# Altium integrated library Renesas Power Management Linear.IntLib: 125 symbols (part 4 of 4)
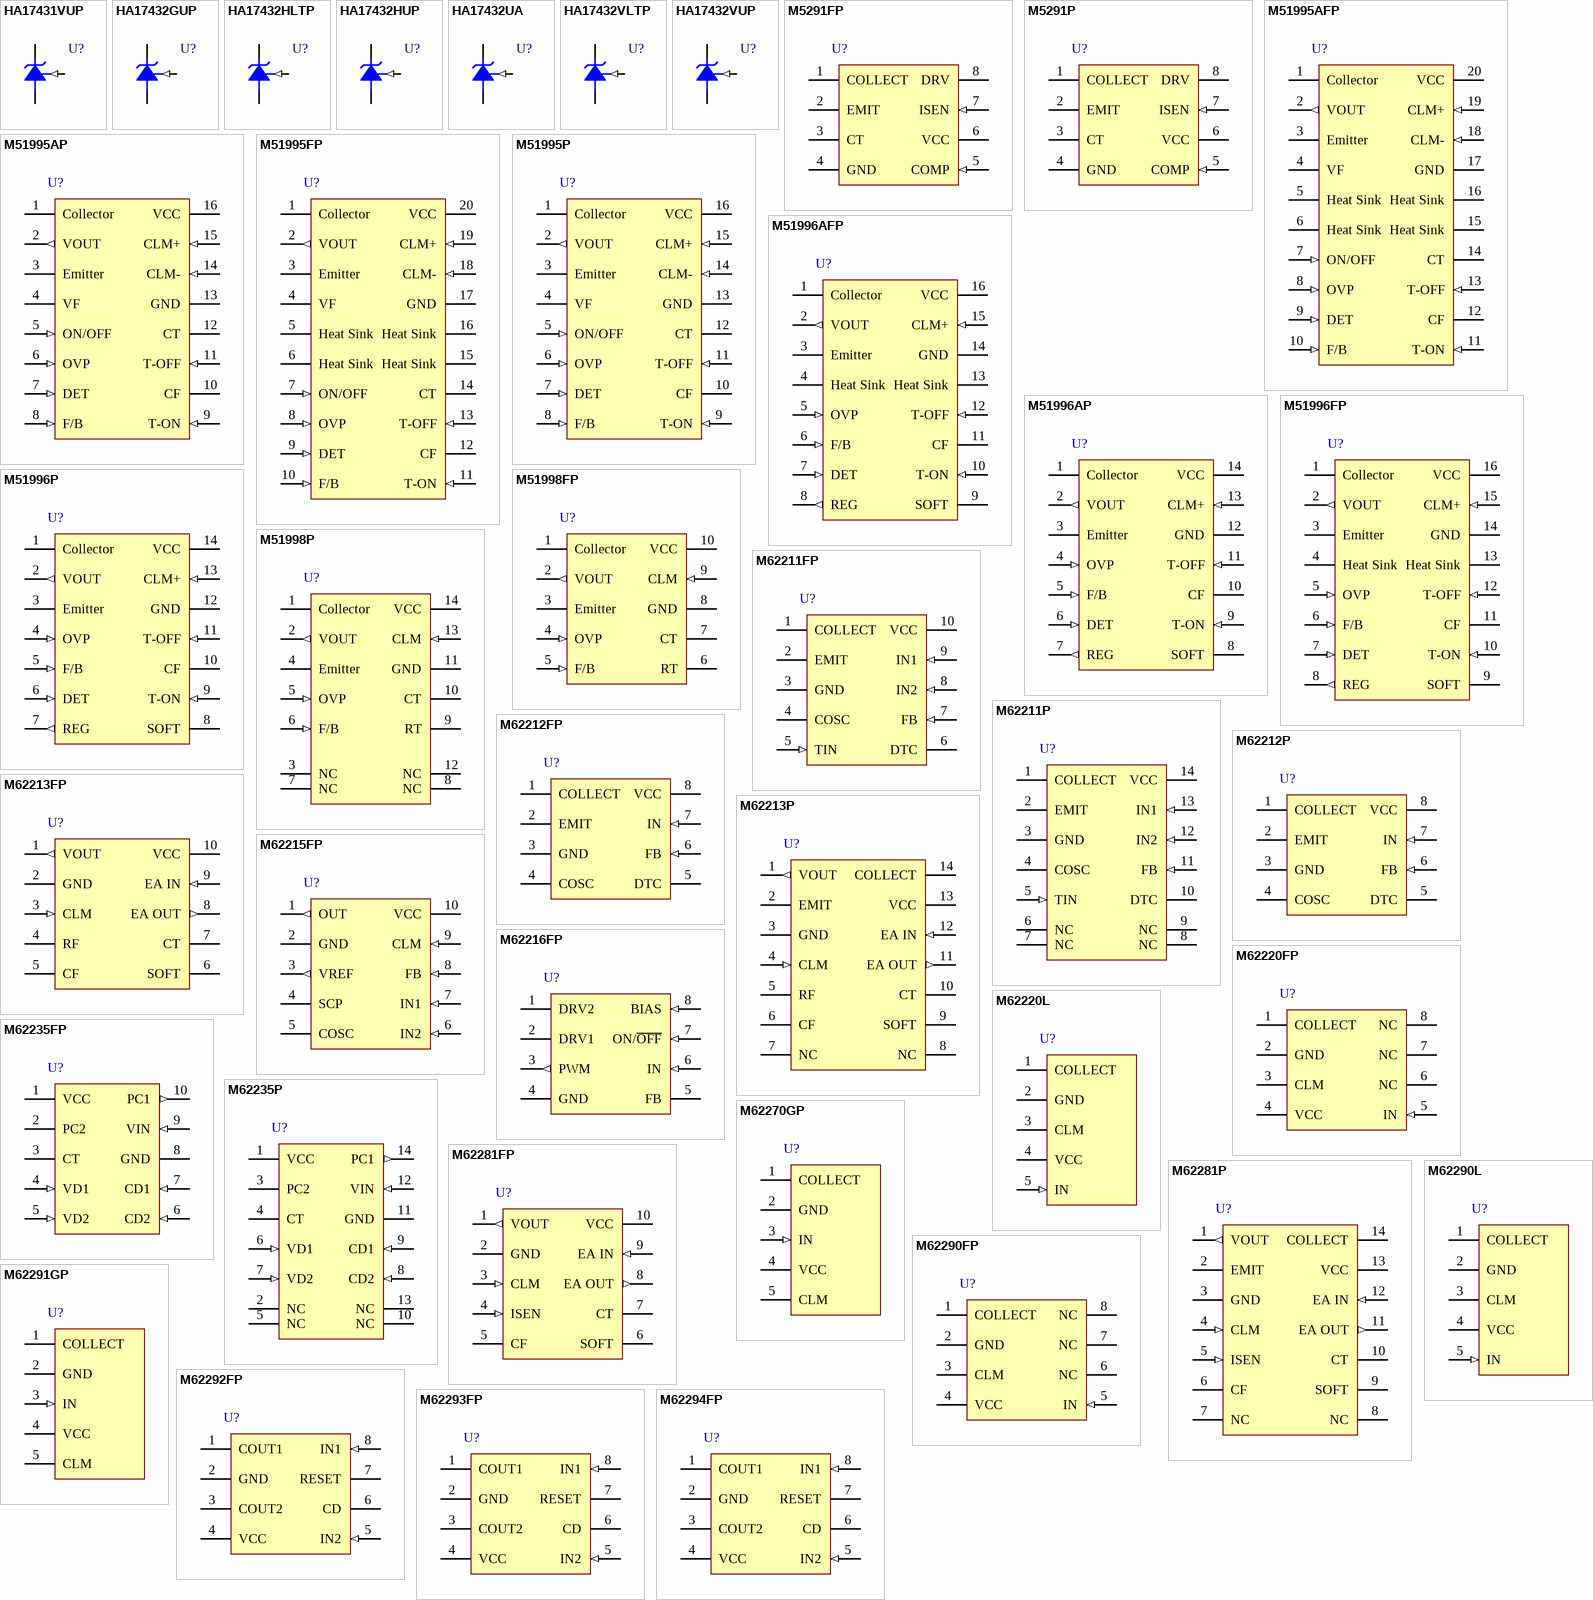
[diagram p6: symbols HA17431VUP to M62294FP]

## M62292FP
designator U?
3.3V and 1.8V Fixed 2-Output Step-Down DC/DC Converter, 110kHz (Fixed), Vin (4 to 15V), 8-pin SOP; Published: 5-Feb-2010; DatasheetVersion: Rev.3.00, Jun-2007; PackageVersion: Sep-2005; PackageReference: PRSP0008DA-A; Publisher: Altium Limited; PackageDescription: 8-Pin Plastic Small Outline Package, 5.0 x 4.4 mm Body, 1.27 mm Pitch; Code_JEITA: P-SOP8-4.4x5-1.27; ComponentLink1Description: Manufacturer Link; ComponentLink1URL: http://sg.renesas.com/fmwk.jsp?cnt=dcdc_converter_root.jsp&fp=/products/standard_ic/general_purpose_linear/power_management_linear/dcdc_converter/; ComponentLink2Description: Datasheet; ComponentLink2URL: http://documentation.renesas.com/eng/products/linear/rej03d0852_m62292fpds.pdf; ComponentLink3Description: Packaging Specification; ComponentLink3URL: http://sg.renesas.com/media/products/common_info/package/pdf/ic/code/prsp0008da_a.pdf
footprint PRSP0008DA-A_N (SOP, 8-Leads, Body 5x4.4mm, Pitch 1.27mm, IPC Medium Density)
footprint PRSP0008DA-A_L (SOP, 8-Leads, Body 5x4.4mm, Pitch 1.27mm, IPC High Density)
footprint PRSP0008DA-A_M (SOP, 8-Leads, Body 5x4.4mm, Pitch 1.27mm, IPC Low Density)
pins: 1 COUT1 (oc), 2 GND (power), 3 COUT2 (oc), 4 VCC (power), 5 IN2 (in), 6 CD, 7 RESET (oc), 8 IN1 (in)

## M62293FP
designator U?
3.3V and 2.5V Fixed 2-Output Step-Down DC/DC Converter, 110kHz (Fixed), Vin (4 to 15V), 8-pin SOP; Published: 5-Feb-2010; DatasheetVersion: Rev.3.00, Jun-2007; PackageVersion: Sep-2005; PackageReference: PRSP0008DA-A; Publisher: Altium Limited; PackageDescription: 8-Pin Plastic Small Outline Package, 5.0 x 4.4 mm Body, 1.27 mm Pitch; Code_JEITA: P-SOP8-4.4x5-1.27; ComponentLink1Description: Manufacturer Link; ComponentLink1URL: http://sg.renesas.com/fmwk.jsp?cnt=dcdc_converter_root.jsp&fp=/products/standard_ic/general_purpose_linear/power_management_linear/dcdc_converter/; ComponentLink2Description: Datasheet; ComponentLink2URL: http://documentation.renesas.com/eng/products/linear/rej03d0853_m62293fpds.pdf; ComponentLink3Description: Packaging Specification; ComponentLink3URL: http://sg.renesas.com/media/products/common_info/package/pdf/ic/code/prsp0008da_a.pdf
footprint PRSP0008DA-A_N (SOP, 8-Leads, Body 5x4.4mm, Pitch 1.27mm, IPC Medium Density)
footprint PRSP0008DA-A_L (SOP, 8-Leads, Body 5x4.4mm, Pitch 1.27mm, IPC High Density)
footprint PRSP0008DA-A_M (SOP, 8-Leads, Body 5x4.4mm, Pitch 1.27mm, IPC Low Density)
pins: 1 COUT1 (oc), 2 GND (power), 3 COUT2 (oc), 4 VCC (power), 5 IN2 (in), 6 CD, 7 RESET (oc), 8 IN1 (in)

## M62294FP
designator U?
3.3V and 2V Fixed 2-Output Step-Down DC/DC Converter, 110kHz (Fixed), Vin (4 to 15V), 8-pin SOP; Published: 5-Feb-2010; DatasheetVersion: Rev.2.00, Jun-2006; PackageVersion: Sep-2005; PackageReference: PRSP0008DA-A; Publisher: Altium Limited; PackageDescription: 8-Pin Plastic Small Outline Package, 5.0 x 4.4 mm Body, 1.27 mm Pitch; Code_JEITA: P-SOP8-4.4x5-1.27; ComponentLink1Description: Manufacturer Link; ComponentLink1URL: http://sg.renesas.com/fmwk.jsp?cnt=dcdc_converter_root.jsp&fp=/products/standard_ic/general_purpose_linear/power_management_linear/dcdc_converter/; ComponentLink2Description: Datasheet; ComponentLink2URL: http://documentation.renesas.com/eng/products/linear/rej03d0854_m62294fpds.pdf; ComponentLink3Description: Packaging Specification; ComponentLink3URL: http://sg.renesas.com/media/products/common_info/package/pdf/ic/code/prsp0008da_a.pdf
footprint PRSP0008DA-A_N (SOP, 8-Leads, Body 5x4.4mm, Pitch 1.27mm, IPC Medium Density)
footprint PRSP0008DA-A_L (SOP, 8-Leads, Body 5x4.4mm, Pitch 1.27mm, IPC High Density)
footprint PRSP0008DA-A_M (SOP, 8-Leads, Body 5x4.4mm, Pitch 1.27mm, IPC Low Density)
pins: 1 COUT1 (oc), 2 GND (power), 3 COUT2 (oc), 4 VCC (power), 5 IN2 (in), 6 CD, 7 RESET (oc), 8 IN1 (in)

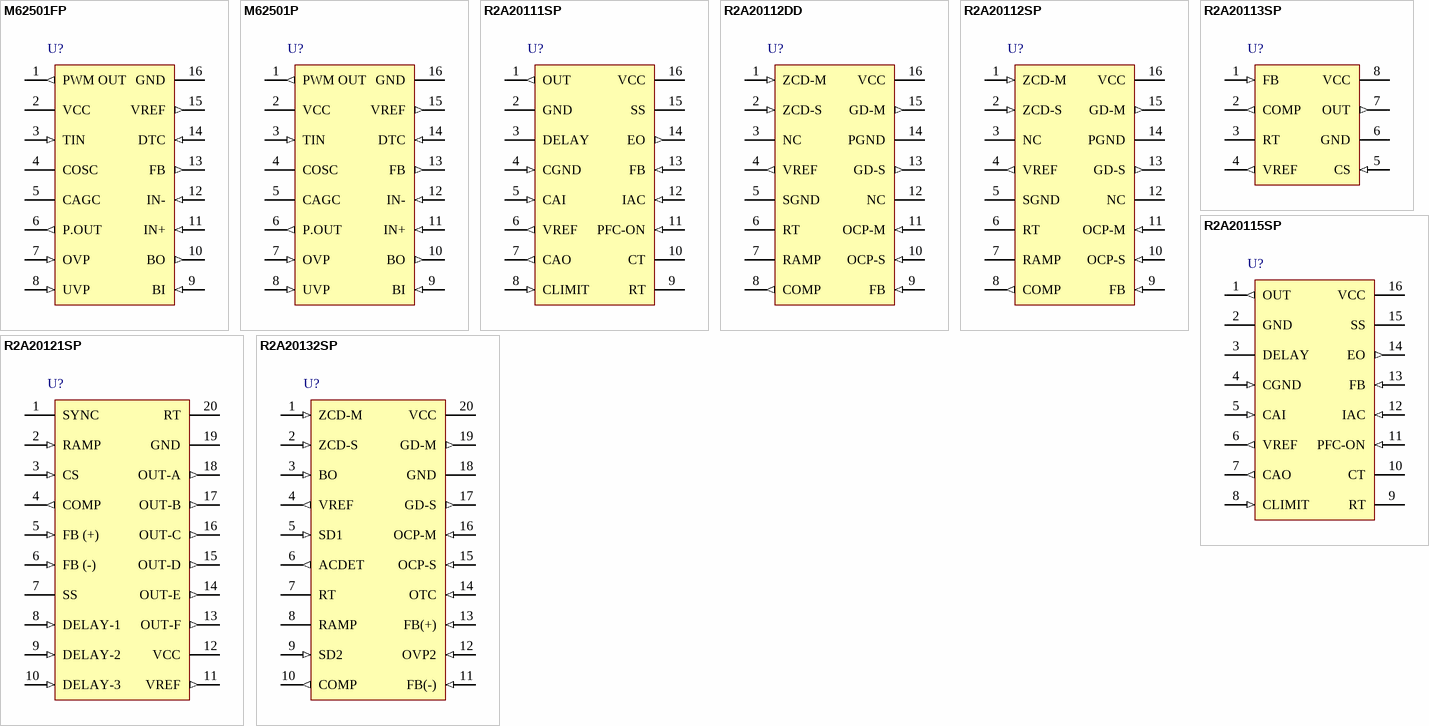
[diagram p3: symbols M62501FP to R2A20132SP]

## M62501FP
designator U?
PWM IC for the Synchronized Deflection System Control (CRT Display Monitors), 16-pin SOP; Published: 5-Feb-2010; DatasheetVersion: Rev.2.00, Jun-2006; PackageVersion: 2008; PackageReference: PRSP0016DA-A; Publisher: Altium Limited; PackageDescription: 16-Pin Plastic Small Outline Package, 10 x 4.4 mm Body, 1.27 mm Pitch; Code_JEITA: P-SOP16-4.4x10-1.27; ComponentLink1Description: Manufacturer Link; ComponentLink1URL: http://sg.renesas.com/fmwk.jsp?cnt=system_power_management_ics_root.jsp&fp=/products/standard_ic/general_purpose_linear/power_management_linear/system_power_management/; ComponentLink2Description: Datasheet; ComponentLink2URL: http://documentation.renesas.com/eng/products/linear/rej03d0857_m62501pds.pdf; ComponentLink3Description: Packaging Specification; ComponentLink3URL: http://sg.renesas.com/media/products/common_info/package/pdf/ic/code/prsp0016da_a.pdf
footprint PRSP0016DA-A_N (SOP, 16-Leads, Body 10x4.4mm, Pitch 1.27mm, IPC Medium Density)
footprint PRSP0016DA-A_L (SOP, 16-Leads, Body 10x4.4mm, Pitch 1.27mm, IPC High Density)
footprint PRSP0016DA-A_M (SOP, 16-Leads, Body 10x4.4mm, Pitch 1.27mm, IPC Low Density)
pins: 1 PWM OUT (out) "PWM output", 2 VCC (power) "Power supply", 3 TIN (in) "Trigger input", 4 COSC "Setting oscillating frequency", 5 CAGC "AGC setting", 6 P.OUT (out) "Error signal output", 7 OVP (in) "Input of over voltage protection", 8 UVP (in) "Input of under voltage protection", 9 BI (in) "Positive input of buffer Amp.", 10 BO (out) "Output of buffer Amp.", 11 IN+ (in) "Positive input of Op-Amp.", 12 IN- (in) "Negative input of Op-Amp.", 13 FB (out) "Output of Op-Amp.", 14 DTC (in) "Dead time control (Soft start function)", 15 VREF (out) "Output of reference voltage (5 V)", 16 GND (power) "Ground"

## M62501P
designator U?
PWM IC for the Synchronized Deflection System Control (CRT Display Monitors), 16-pin DIP; Published: 5-Feb-2010; DatasheetVersion: Rev.2.00, Jun-2006; PackageVersion: Sep-2005; PackageReference: PRDP0016AA-A; Publisher: Altium Limited; PackageDescription: 16-Pin Plastic DIP, 19 x 6.3 mm Body, 7.62 mm Row Spacing, Pitch 2.54 mm; Code_JEITA: P-DIP16-6.3x19-2.54; ComponentLink1Description: Manufacturer Link; ComponentLink1URL: http://sg.renesas.com/fmwk.jsp?cnt=system_power_management_ics_root.jsp&fp=/products/standard_ic/general_purpose_linear/power_management_linear/system_power_management/; ComponentLink2Description: Datasheet; ComponentLink2URL: http://documentation.renesas.com/eng/products/linear/rej03d0857_m62501pds.pdf; ComponentLink3Description: Packaging Specification; ComponentLink3URL: http://sg.renesas.com/media/products/common_info/package/pdf/ic/code/prdp0016aa_a.pdf
footprint PRDP0016AA-A (DIP, 16-Leads, Row Spacing 7.62mm, Pitch 2.54mm, Body 19x6.3mm)
pins: 1 PWM OUT (out) "PWM output", 2 VCC (power) "Power supply", 3 TIN (in) "Trigger input", 4 COSC "Setting oscillating frequency", 5 CAGC "AGC setting", 6 P.OUT (out) "Error signal output", 7 OVP (in) "Input of over voltage protection", 8 UVP (in) "Input of under voltage protection", 9 BI (in) "Positive input of buffer Amp.", 10 BO (out) "Output of buffer Amp.", 11 IN+ (in) "Positive input of Op-Amp.", 12 IN- (in) "Negative input of Op-Amp.", 13 FB (out) "Output of Op-Amp.", 14 DTC (in) "Dead time control (Soft start function)", 15 VREF (out) "Output of reference voltage (5 V)", 16 GND (power) "Ground"

## R2A20111SP
designator U?
Power-Factor Correction (PFC) Controller, Continuous Conduction Mode, VCC (24V), 16-pin SOP; Published: 5-Feb-2010; DatasheetVersion: Rev.2.00, Sep-2009; PackageVersion: Sep-2005; PackageReference: PRSP0016DH-B; Publisher: Altium Limited; PackageDescription: 16-Pin Plastic Small Outline Package 1.27 mm Pitch; Code_JEITA: P-SOP16-5.5x10.06-1.27; ComponentLink1Description: Manufacturer Link; ComponentLink1URL: http://sg.renesas.com/fmwk.jsp?cnt=pfc_power_supply_root.jsp&fp=/products/standard_ic/general_purpose_linear/power_management_linear/pfc_power_supply/; ComponentLink2Description: Datasheet; ComponentLink2URL: http://documentation.renesas.com/eng/products/linear/rej03f0231_r2a20111spds.pdf; ComponentLink3Description: Packaging Specification; ComponentLink3URL: http://sg.renesas.com/media/products/common_info/package/pdf/ic/code/prsp0016dh_b.pdf
footprint PRSP0016DH-B_N (SOP, 16-Leads, Body 10.06x5.5mm, Pitch 1.27mm, IPC Medium Density)
footprint PRSP0016DH-B_L (SOP, 16-Leads, Body 10.06x5.5mm, Pitch 1.27mm, IPC High Density)
footprint PRSP0016DH-B_M (SOP, 16-Leads, Body 10.06x5.5mm, Pitch 1.27mm, IPC Low Density)
pins: 1 OUT (out) "Power MOSFET gate driver output", 2 GND (power) "Ground", 3 DELAY "Hold time adjust and IC shutdown", 4 CGND (in) "Non-inverting input of current amplifier", 5 CAI (in) "Inverting input of current amplifier and Current output for PFC control", 6 VREF (out) "Reference voltage output", 7 CAO (out) "Current amplifier output", 8 CLIMIT (in) "Overcurrent detection", 9 RT "Timing resistor for settings of operational frequency, and the maximum CAI pin and DELAY pin current", 10 CT "Timing capacitor for operational frequency adjust", 11 PFC-ON (in) "Detection of input AC voltage level", 12 IAC (in) "Detection of input AC waveform", 13 FB (in) "Voltage amplifier input", 14 EO (out) "Voltage amplifier output", 15 SS "Timing capacitor for soft-start time adjust", 16 VCC (power) "Power supply voltage input"

## R2A20112DD
designator U?
Power-Factor Correction (PFC) Controller, Critical Conduction Mode Interleaved, VCC (24V), 16-pin DIP; Published: 5-Feb-2010; DatasheetVersion: Rev.2.00, Nov-2007; PackageVersion: Sep-2005; PackageReference: PRDP0016AE-B; Publisher: Altium Limited; PackageDescription: DIP, Plastic, 16-Pin, Row Spacing 7.62 mm, Pitch 2.54 mm; Code_JEITA: P-DIP16-6.3x19.2-2.54; ComponentLink1Description: Manufacturer Link; ComponentLink1URL: http://sg.renesas.com/fmwk.jsp?cnt=pfc_power_supply_root.jsp&fp=/products/standard_ic/general_purpose_linear/power_management_linear/pfc_power_supply/; ComponentLink2Description: Datasheet; ComponentLink2URL: http://documentation.renesas.com/eng/products/linear/rej03d0904_r2a20112spds.pdf; ComponentLink3Description: Packaging Specification; ComponentLink3URL: http://sg.renesas.com/media/products/common_info/package/pdf/ic/code/prdp0016ae_b.pdf
footprint PRDP0016AE-B (DIP, 16-Leads, Row Spacing 7.62mm, Pitch 2.54mm, Body 19.2x6.3mm)
pins: 1 ZCD-M (in) "Master converter zero current detection input terminal", 2 ZCD-S (in) "Slave converter zero current detection input terminal", 3 NC "Open", 4 VREF (out) "Reference voltage output terminal", 5 SGND (power) "Ground for small signal circuit", 6 RT "Oscillator frequency setting terminal", 7 RAMP "Ramp waveform setting terminal", 8 COMP (out) "Error amplifier output terminal", 9 FB (in) "Error amplifier input terminal", 10 OCP-S (in) "Slave converter overcurrent detection terminal", 11 OCP-M (in) "Master converter overcurrent detection terminal", 12 NC "Open", 13 GD-S (out) "Slave converter Power MOSFET drive terminal", 14 PGND (power) "Ground for power stage", 15 GD-M (out) "Master converter Power MOSFET drive terminal", 16 VCC (power) "Supply voltage terminal"

## R2A20112SP
designator U?
Power-Factor Correction (PFC) Controller, Critical Conduction Mode Interleaved, VCC (24V), 16-pin SOP; Published: 5-Feb-2010; DatasheetVersion: Rev.2.00, Nov-2007; PackageVersion: Sep-2005; PackageReference: PRSP0016DH-B; Publisher: Altium Limited; PackageDescription: 16-Pin Plastic Small Outline Package 1.27 mm Pitch; Code_JEITA: P-SOP16-5.5x10.06-1.27; ComponentLink1Description: Manufacturer Link; ComponentLink1URL: http://sg.renesas.com/fmwk.jsp?cnt=pfc_power_supply_root.jsp&fp=/products/standard_ic/general_purpose_linear/power_management_linear/pfc_power_supply/; ComponentLink2Description: Datasheet; ComponentLink2URL: http://documentation.renesas.com/eng/products/linear/rej03d0904_r2a20112spds.pdf; ComponentLink3Description: Packaging Specification; ComponentLink3URL: http://sg.renesas.com/media/products/common_info/package/pdf/ic/code/prsp0016dh_b.pdf
footprint PRSP0016DH-B_N (SOP, 16-Leads, Body 10.06x5.5mm, Pitch 1.27mm, IPC Medium Density)
footprint PRSP0016DH-B_L (SOP, 16-Leads, Body 10.06x5.5mm, Pitch 1.27mm, IPC High Density)
footprint PRSP0016DH-B_M (SOP, 16-Leads, Body 10.06x5.5mm, Pitch 1.27mm, IPC Low Density)
pins: 1 ZCD-M (in) "Master converter zero current detection input terminal", 2 ZCD-S (in) "Slave converter zero current detection input terminal", 3 NC "Open", 4 VREF (out) "Reference voltage output terminal", 5 SGND (power) "Ground for small signal circuit", 6 RT "Oscillator frequency setting terminal", 7 RAMP "Ramp waveform setting terminal", 8 COMP (out) "Error amplifier output terminal", 9 FB (in) "Error amplifier input terminal", 10 OCP-S (in) "Slave converter overcurrent detection terminal", 11 OCP-M (in) "Master converter overcurrent detection terminal", 12 NC "Open", 13 GD-S (out) "Slave converter Power MOSFET drive terminal", 14 PGND (power) "Ground for power stage", 15 GD-M (out) "Master converter Power MOSFET drive terminal", 16 VCC (power) "Supply voltage terminal"

## R2A20113SP
designator U?
Power-Factor Correction (PFC) Controller, Critical Conduction Mode, VCC (24V), 8-pin SOP; Published: 5-Feb-2010; DatasheetVersion: Rev.2.00, Jul-2009; PackageVersion: Sep-2005; PackageReference: PRSP0008DD-C; Publisher: Altium Limited; PackageDescription: 8-Pin Plastic Small Outline Integrated Circuit 1.27 mm Pitch; Code_JEITA: P-SOP8-3.95x4.9-1.27; Code_IPC: SOIC127P600-8; ComponentLink1Description: Manufacturer Link; ComponentLink1URL: http://sg.renesas.com/fmwk.jsp?cnt=pfc_power_supply_root.jsp&fp=/products/standard_ic/general_purpose_linear/power_management_linear/pfc_power_supply/; ComponentLink2Description: Datasheet; ComponentLink2URL: http://documentation.renesas.com/eng/products/assp/rej03f0279_r2a20113ddds.pdf; ComponentLink3Description: Packaging Specification; ComponentLink3URL: http://sg.renesas.com/media/products/common_info/package/pdf/ic/code/prsp0008dd_c.pdf
footprint PRSP0008DD-C_N (SOIC, 8-Leads, Body 4.9x3.95mm, Pitch 1.27mm, IPC Medium Density)
footprint PRSP0008DD-C_L (SOIC, 8-Leads, Body 4.9x3.95mm, Pitch 1.27mm, IPC High Density)
footprint PRSP0008DD-C_M (SOIC, 8-Leads, Body 4.9x3.95mm, Pitch 1.27mm, IPC Low Density)
pins: 1 FB (in) "Error amplifier input terminal", 2 COMP (out) "Error amplifier output terminal", 3 RT "A resistor connection terminal for RAMP current setting", 4 VREF (out) "Reference voltage output terminal", 5 CS (in) "Zero current detection and overcurrent detection input terminal", 6 GND (power) "Ground", 7 OUT (out) "Power MOSFET drive terminal", 8 VCC (power) "Supply voltage terminal"

## R2A20115SP
designator U?
Power-Factor Correction (PFC) Controller, Continuous Conduction Mode, VCC (24V), 16-pin SOP; Published: 5-Feb-2010; DatasheetVersion: Rev.1.00, Oct-2006; PackageVersion: Sep-2005; PackageReference: PRSP0016DH-B; Publisher: Altium Limited; PackageDescription: 16-Pin Plastic Small Outline Package 1.27 mm Pitch; Code_JEITA: P-SOP16-5.5x10.06-1.27; ComponentLink1Description: Manufacturer Link; ComponentLink1URL: http://sg.renesas.com/fmwk.jsp?cnt=pfc_power_supply_root.jsp&fp=/products/standard_ic/general_purpose_linear/power_management_linear/pfc_power_supply/; ComponentLink2Description: Datasheet; ComponentLink2URL: http://documentation.renesas.com/eng/products/linear/rej03d0923_r2a20115spds.pdf; ComponentLink3Description: Packaging Specification; ComponentLink3URL: http://sg.renesas.com/media/products/common_info/package/pdf/ic/code/prsp0016dh_b.pdf
footprint PRSP0016DH-B_N (SOP, 16-Leads, Body 10.06x5.5mm, Pitch 1.27mm, IPC Medium Density)
footprint PRSP0016DH-B_L (SOP, 16-Leads, Body 10.06x5.5mm, Pitch 1.27mm, IPC High Density)
footprint PRSP0016DH-B_M (SOP, 16-Leads, Body 10.06x5.5mm, Pitch 1.27mm, IPC Low Density)
pins: 1 OUT (out) "Power MOSFET gate driver output", 2 GND (power) "Ground", 3 DELAY "Hold time adjust and IC shutdown", 4 CGND (in) "Non-inverting input of current amplifier", 5 CAI (in) "Inverting input of current amplifier and Current output for PFC control", 6 VREF (out) "Reference voltage output", 7 CAO (out) "Current amplifier output", 8 CLIMIT (in) "Overcurrent detection", 9 RT "Timing resistor for settings of operational frequency, and the maximum CAI pin and DELAY pin current", 10 CT "Timing capacitor for operational frequency adjust", 11 PFC-ON (in) "Detection of input AC voltage level", 12 IAC (in) "Detection of input AC waveform", 13 FB (in) "Voltage amplifier input", 14 EO (out) "Voltage amplifier output", 15 SS "Timing capacitor for soft-start time adjust", 16 VCC (power) "Power supply voltage input"

## R2A20121SP
designator U?
Synchronous Phase Shift Full-Bridge Controller, 2MHz, Vin (20V), 20-pin TSSOP; Published: 5-Feb-2010; DatasheetVersion: Rev.1.00, Sep-2008; PackageVersion: Sep-2005; PackageReference: PTSP0020JB-A; Publisher: Altium Limited; PackageDescription: 20-Pin Plastic Thin Small Outline Package, 6.5 x 4.4 mm Body, 0.65 mm Pitch; Code_JEITA: P-TSSOP20-4.4x6.5-0.65; ComponentLink1Description: Manufacturer Link; ComponentLink1URL: http://sg.renesas.com/fmwk.jsp?cnt=insulated_swps_root.jsp&fp=/products/standard_ic/general_purpose_linear/power_management_linear/insulated_sw_powersupply/; ComponentLink2Description: Datasheet; ComponentLink2URL: http://documentation.renesas.com/eng/products/linear/rej03d0914_r2a20121spds.pdf; ComponentLink3Description: Packaging Specification; ComponentLink3URL: http://sg.renesas.com/media/products/common_info/package/pdf/ic/code/ptsp0020jb_a.pdf
footprint PTSP0020JB-A_N (TSOP, 20-Leads, Body 6.5x4.4mm, Pitch 0.65mm, IPC Medium Density)
footprint PTSP0020JB-A_L (TSOP, 20-Leads, Body 6.5x4.4mm, Pitch 0.65mm, IPC High Density)
footprint PTSP0020JB-A_M (TSOP, 20-Leads, Body 6.5x4.4mm, Pitch 0.65mm, IPC Low Density)
pins: 1 SYNC "Synchronization I/O for the oscillator", 2 RAMP (in) "Current sense signal input for the full-bridge control loop", 3 CS (in) "Current sense signal input for OCP", 4 COMP (out) "Error amplifier output", 5 FB (+) (in) "Error amplifier plus input", 6 FB (-) (in) "Error amplifier minus input", 7 SS "Timing capacitor for soft-start", 8 DELAY-1 (in) "Delay time adjustor for the full-bridge control signal (OUT-A and B)", 9 DELAY-2 (in) "Delay time adjustor for the full-bridge control signal (OUT-C and D)", 10 DELAY-3 (in) "Delay time adjustor for the secondary control signal (OUT-E and F)", 11 VREF (out) "5 V/20 mA Output", 12 VCC (power) "IC power supply input", 13 OUT-F (out) "Secondary control signal", 14 OUT-E (out) "Secondary control signal", 15 OUT-D (out) "Full-bridge control signal", 16 OUT-C (out) "Full-bridge control signal", 17 OUT-B (out) "Full-bridge control signal", 18 OUT-A (out) "Full-bridge control signal", 19 GND (power) "Ground level for the IC", 20 RT "Timing resistor for the oscillator"

## R2A20132SP
designator U?
Power-Factor Correction (PFC) Controller, Critical Conduction Mode Interleaved, VCC (24V), 20-pin SOP; Published: 5-Feb-2010; DatasheetVersion: Rev.1.00, Oct-2009; PackageVersion: Sep-2005; PackageReference: PRSP0020DD-B; Publisher: Altium Limited; PackageDescription: 20-Pin Plastic Small Outline Package, 12.6 x 5.5 x 1.8 mm Body, 1.27 mm Pitch; Code_JEITA: P-SOP20-5.5x12.6-1.27; ComponentLink1Description: Manufacturer Link; ComponentLink1URL: http://sg.renesas.com/fmwk.jsp?cnt=pfc_power_supply_root.jsp&fp=/products/standard_ic/general_purpose_linear/power_management_linear/pfc_power_supply/; ComponentLink2Description: Datasheet; ComponentLink2URL: http://documentation.renesas.com/eng/products/linear/rej03d0921_r2a20132spds.pdf; ComponentLink3Description: Packaging Specification; ComponentLink3URL: http://sg.renesas.com/media/products/common_info/package/pdf/ic/code/prsp0020dd_b.pdf
footprint PRSP0020DD-B_N (SOP, 20-Leads, Body 12.6x5.3mm, Pitch 1.27mm, IPC Medium Density)
footprint PRSP0020DD-B_L (SOP, 20-Leads, Body 12.6x5.3mm, Pitch 1.27mm, IPC High Density)
footprint PRSP0020DD-B_M (SOP, 20-Leads, Body 12.6x5.3mm, Pitch 1.27mm, IPC Low Density)
pins: 1 ZCD-M (in) "Master converter zero current detection input terminal", 2 ZCD-S (in) "Slave converter zero current detection input terminal", 3 BO (in) "Brownout input terminal", 4 VREF (out) "Reference voltage output terminal", 5 SD1 (in) "Slave drop threshold voltage input terminal (for Lo line: 100 V)", 6 ACDET (out) "AC hi voltage detection output terminal", 7 RT "Oscillator frequency setting terminal", 8 RAMP "Ramp waveform setting terminal", 9 SD2 (in) "Slave drop threshold voltage change terminal (for Hi line: 200 V)", 10 COMP (out) "Error amplifier output terminal", 11 FB(-) (in) "Error amplifier input (-) terminal", 12 OVP2 (in) "Over voltage detection terminal", 13 FB(+) (in) "Error amplifier input (+) terminal", 14 OTC (in) "Off time control input terminal", 15 OCP-S (in) "Slave converter over current detection terminal", 16 OCP-M (in) "Master converter over current detection terminal", 17 GD-S (out) "Slave converter Power MOSFET drive terminal", 18 GND (power) "Ground", 19 GD-M (out) "Master converter Power MOSFET drive terminal", 20 VCC (power) "Supply voltage terminal"